# Altium integrated library con-amp.IntLib: 238 symbols (part 3 of 3)
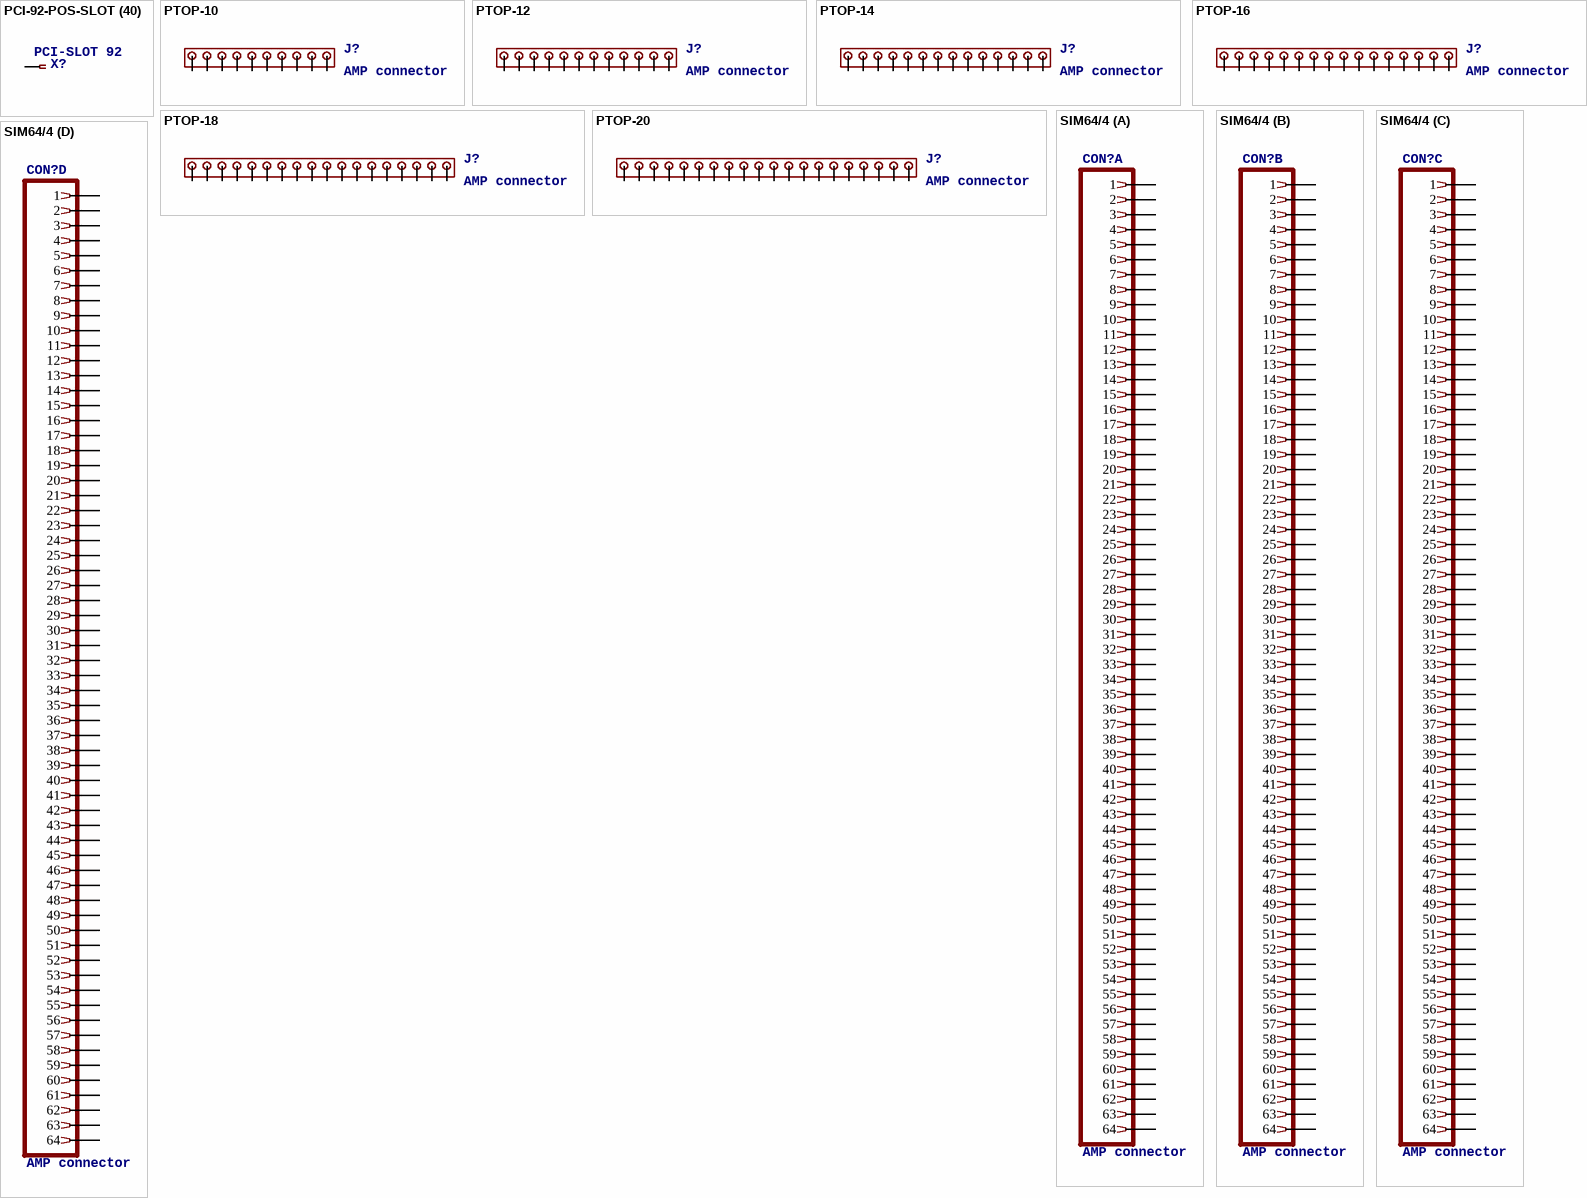
[diagram p36: symbols PCI-92-POS-SLOT to SIM64/4]

## SIM64/4
designator CON?, comment AMP connector
footprint 63825804
part A pins: 1, 2, 3, 4, 5, 6, 7, 8, 9, 10, 11, 12, 13, 14, 15, 16, 17, 18, 19, 20, 21, 22, 23, 24, 25, 26, 27, 28, 29, 30, 31, 32, 33, 34, 35, 36, 37, 38, 39, 40, 41, 42, 43, 44, 45, 46, 47, 48, 49, 50, 51, 52, 53, 54, 55, 56, 57, 58, 59, 60, 61, 62, 63, 64
part B pins: 65 1, 66 2, 67 3, 68 4, 69 5, 70 6, 71 7, 72 8, 73 9, 74 10, 75 11, 76 12, 77 13, 78 14, 79 15, 80 16, 81 17, 82 18, 83 19, 84 20, 85 21, 86 22, 87 23, 88 24, 89 25, 90 26, 91 27, 92 28, 93 29, 94 30, 95 31, 96 32, 97 33, 98 34, 99 35, 100 36, 101 37, 102 38, 103 39, 104 40, 105 41, 106 42, 107 43, 108 44, 109 45, 110 46, 111 47, 112 48, 113 49, 114 50, 115 51, 116 52, 117 53, 118 54, 119 55, 120 56, 121 57, 122 58, 123 59, 124 60, 125 61, 126 62, 127 63, 128 64
part C pins: 129 1, 130 2, 131 3, 132 4, 133 5, 134 6, 135 7, 136 8, 137 9, 138 10, 139 11, 140 12, 141 13, 142 14, 143 15, 144 16, 145 17, 146 18, 147 19, 148 20, 149 21, 150 22, 151 23, 152 24, 153 25, 154 26, 155 27, 156 28, 157 29, 158 30, 159 31, 160 32, 161 33, 162 34, 163 35, 164 36, 165 37, 166 38, 167 39, 168 40, 169 41, 170 42, 171 43, 172 44, 173 45, 174 46, 175 47, 176 48, 177 49, 178 50, 179 51, 180 52, 181 53, 182 54, 183 55, 184 56, 185 57, 186 58, 187 59, 188 60, 189 61, 190 62, 191 63, 192 64
part D pins: 193 1, 194 2, 195 3, 196 4, 197 5, 198 6, 199 7, 200 8, 201 9, 202 10, 203 11, 204 12, 205 13, 206 14, 207 15, 208 16, 209 17, 210 18, 211 19, 212 20, 213 21, 214 22, 215 23, 216 24, 217 25, 218 26, 219 27, 220 28, 221 29, 222 30, 223 31, 224 32, 225 33, 226 34, 227 35, 228 36, 229 37, 230 38, 231 39, 232 40, 233 41, 234 42, 235 43, 236 44, 237 45, 238 46, 239 47, 240 48, 241 49, 242 50, 243 51, 244 52, 245 53, 246 54, 247 55, 248 56, 249 57, 250 58, 251 59, 252 60, 253 61, 254 62, 255 63, 256 64

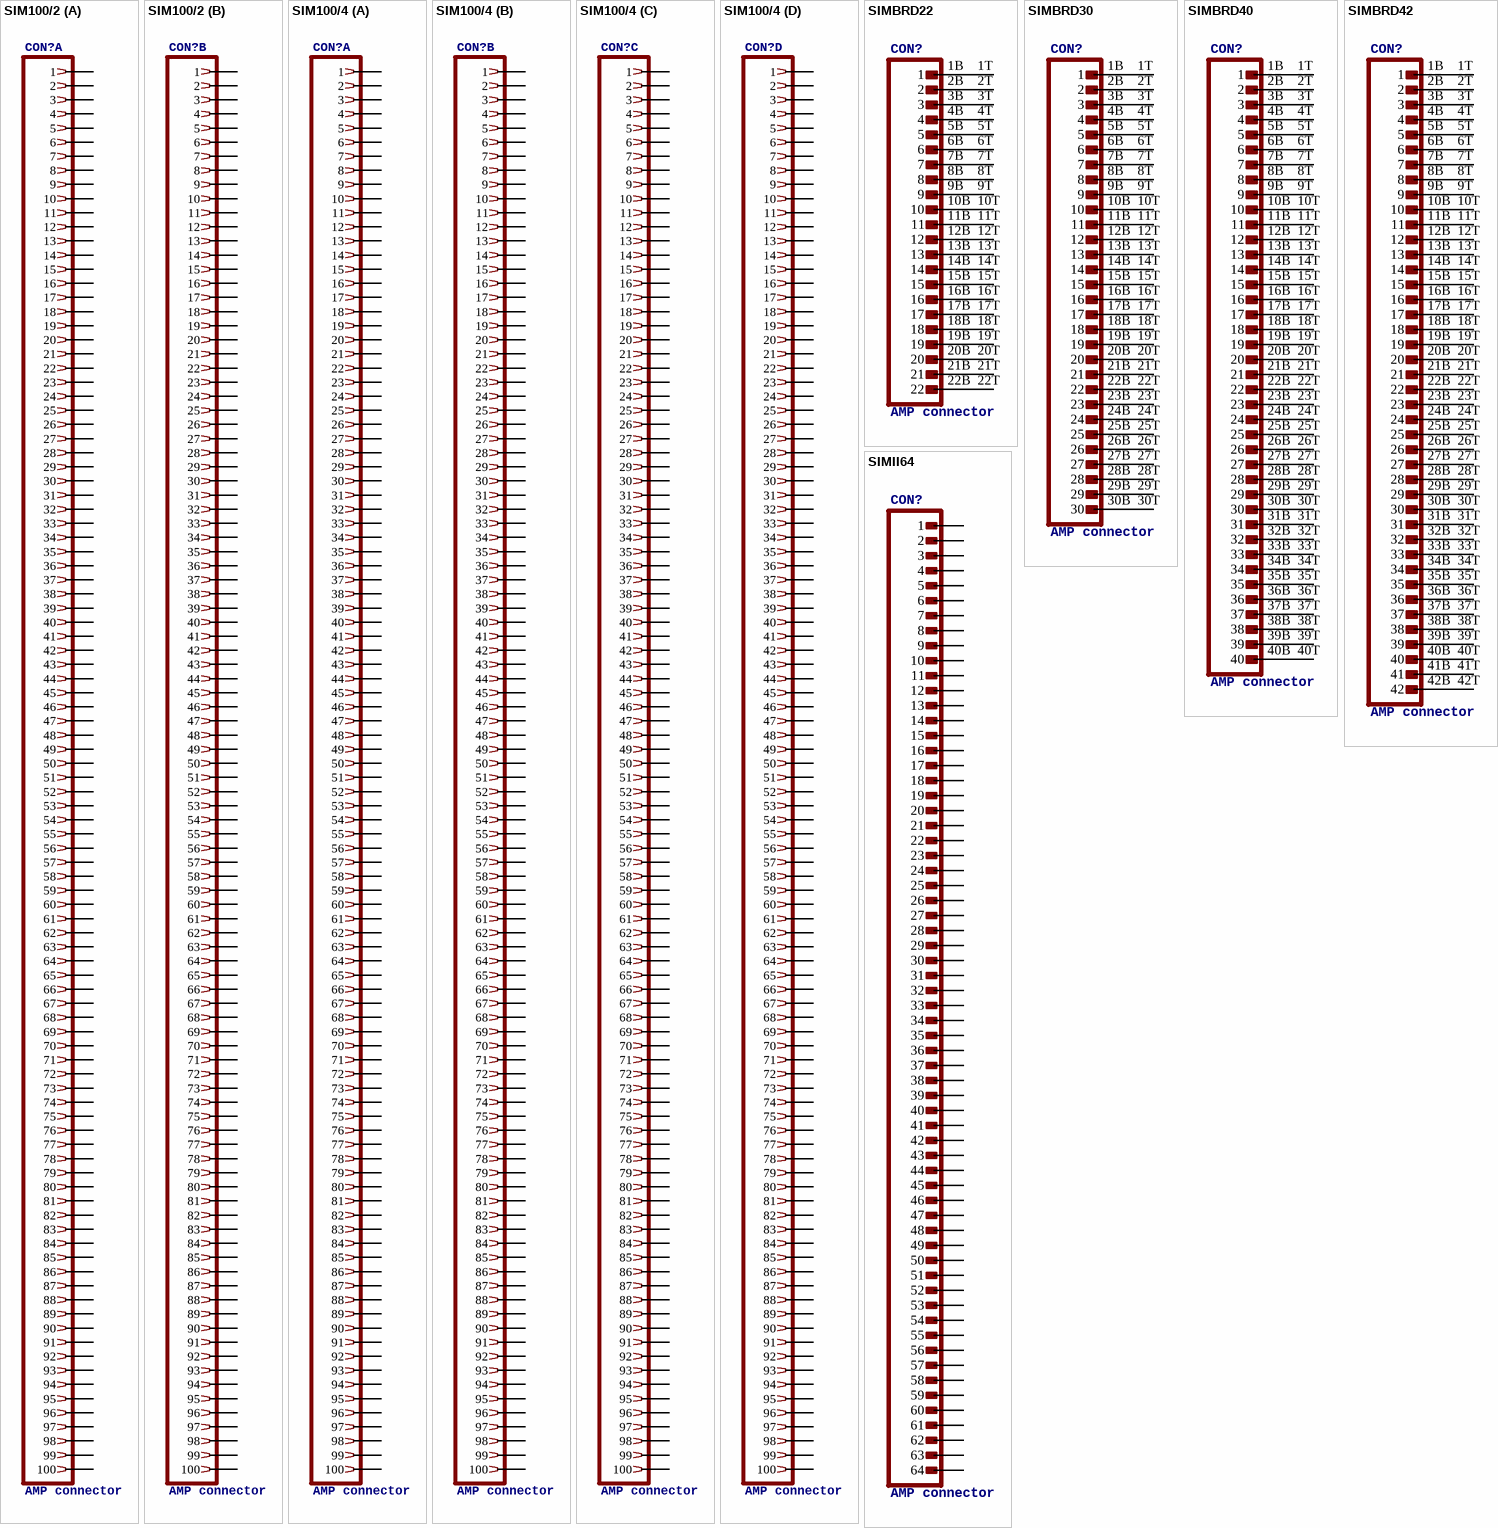
[diagram p30: symbols SIM100/2 to SIMII64]

## SIM100/2
designator CON?, comment AMP connector
footprint 382784-1
part A pins: 1, 2, 3, 4, 5, 6, 7, 8, 9, 10, 11, 12, 13, 14, 15, 16, 17, 18, 19, 20, 21, 22, 23, 24, 25, 26, 27, 28, 29, 30, 31, 32, 33, 34, 35, 36, 37, 38, 39, 40, 41, 42, 43, 44, 45, 46, 47, 48, 49, 50, 51, 52, 53, 54, 55, 56, 57, 58, 59, 60, 61, 62, 63, 64, 65, 66, 67, 68, 69, 70, 71, 72, 73, 74, 75, 76, 77, 78, 79, 80, 81, 82, 83, 84, 85, 86, 87, 88, 89, 90, 91, 92, 93, 94, 95, 96, 97, 98, 99, 100
part B pins: 101 1, 102 2, 103 3, 104 4, 105 5, 106 6, 107 7, 108 8, 109 9, 110 10, 111 11, 112 12, 113 13, 114 14, 115 15, 116 16, 117 17, 118 18, 119 19, 120 20, 121 21, 122 22, 123 23, 124 24, 125 25, 126 26, 127 27, 128 28, 129 29, 130 30, 131 31, 132 32, 133 33, 134 34, 135 35, 136 36, 137 37, 138 38, 139 39, 140 40, 141 41, 142 42, 143 43, 144 44, 145 45, 146 46, 147 47, 148 48, 149 49, 150 50, 151 51, 152 52, 153 53, 154 54, 155 55, 156 56, 157 57, 158 58, 159 59, 160 60, 161 61, 162 62, 163 63, 164 64, 165 65, 166 66, 167 67, 168 68, 169 69, 170 70, 171 71, 172 72, 173 73, 174 74, 175 75, 176 76, 177 77, 178 78, 179 79, 180 80, 181 81, 182 82, 183 83, 184 84, 185 85, 186 86, 187 87, 188 88, 189 89, 190 90, 191 91, 192 92, 193 93, 194 94, 195 95, 196 96, 197 97, 198 98, 199 99, 200 100

## SIM100/4
designator CON?, comment AMP connector
footprint 382813-1
part A pins: 1, 2, 3, 4, 5, 6, 7, 8, 9, 10, 11, 12, 13, 14, 15, 16, 17, 18, 19, 20, 21, 22, 23, 24, 25, 26, 27, 28, 29, 30, 31, 32, 33, 34, 35, 36, 37, 38, 39, 40, 41, 42, 43, 44, 45, 46, 47, 48, 49, 50, 51, 52, 53, 54, 55, 56, 57, 58, 59, 60, 61, 62, 63, 64, 65, 66, 67, 68, 69, 70, 71, 72, 73, 74, 75, 76, 77, 78, 79, 80, 81, 82, 83, 84, 85, 86, 87, 88, 89, 90, 91, 92, 93, 94, 95, 96, 97, 98, 99, 100
part B pins: 101 1, 102 2, 103 3, 104 4, 105 5, 106 6, 107 7, 108 8, 109 9, 110 10, 111 11, 112 12, 113 13, 114 14, 115 15, 116 16, 117 17, 118 18, 119 19, 120 20, 121 21, 122 22, 123 23, 124 24, 125 25, 126 26, 127 27, 128 28, 129 29, 130 30, 131 31, 132 32, 133 33, 134 34, 135 35, 136 36, 137 37, 138 38, 139 39, 140 40, 141 41, 142 42, 143 43, 144 44, 145 45, 146 46, 147 47, 148 48, 149 49, 150 50, 151 51, 152 52, 153 53, 154 54, 155 55, 156 56, 157 57, 158 58, 159 59, 160 60, 161 61, 162 62, 163 63, 164 64, 165 65, 166 66, 167 67, 168 68, 169 69, 170 70, 171 71, 172 72, 173 73, 174 74, 175 75, 176 76, 177 77, 178 78, 179 79, 180 80, 181 81, 182 82, 183 83, 184 84, 185 85, 186 86, 187 87, 188 88, 189 89, 190 90, 191 91, 192 92, 193 93, 194 94, 195 95, 196 96, 197 97, 198 98, 199 99, 200 100
part C pins: 201 1, 202 2, 203 3, 204 4, 205 5, 206 6, 207 7, 208 8, 209 9, 210 10, 211 11, 212 12, 213 13, 214 14, 215 15, 216 16, 217 17, 218 18, 219 19, 220 20, 221 21, 222 22, 223 23, 224 24, 225 25, 226 26, 227 27, 228 28, 229 29, 230 30, 231 31, 232 32, 233 33, 234 34, 235 35, 236 36, 237 37, 238 38, 239 39, 240 40, 241 41, 242 42, 243 43, 244 44, 245 45, 246 46, 247 47, 248 48, 249 49, 250 50, 251 51, 252 52, 253 53, 254 54, 255 55, 256 56, 257 57, 258 58, 259 59, 260 60, 261 61, 262 62, 263 63, 264 64, 265 65, 266 66, 267 67, 268 68, 269 69, 270 70, 271 71, 272 72, 273 73, 274 74, 275 75, 276 76, 277 77, 278 78, 279 79, 280 80, 281 81, 282 82, 283 83, 284 84, 285 85, 286 86, 287 87, 288 88, 289 89, 290 90, 291 91, 292 92, 293 93, 294 94, 295 95, 296 96, 297 97, 298 98, 299 99, 300 100
part D pins: 301 1, 302 2, 303 3, 304 4, 305 5, 306 6, 307 7, 308 8, 309 9, 310 10, 311 11, 312 12, 313 13, 314 14, 315 15, 316 16, 317 17, 318 18, 319 19, 320 20, 321 21, 322 22, 323 23, 324 24, 325 25, 326 26, 327 27, 328 28, 329 29, 330 30, 331 31, 332 32, 333 33, 334 34, 335 35, 336 36, 337 37, 338 38, 339 39, 340 40, 341 41, 342 42, 343 43, 344 44, 345 45, 346 46, 347 47, 348 48, 349 49, 350 50, 351 51, 352 52, 353 53, 354 54, 355 55, 356 56, 357 57, 358 58, 359 59, 360 60, 361 61, 362 62, 363 63, 364 64, 365 65, 366 66, 367 67, 368 68, 369 69, 370 70, 371 71, 372 72, 373 73, 374 74, 375 75, 376 76, 377 77, 378 78, 379 79, 380 80, 381 81, 382 82, 383 83, 384 84, 385 85, 386 86, 387 87, 388 88, 389 89, 390 90, 391 91, 392 92, 393 93, 394 94, 395 95, 396 96, 397 97, 398 98, 399 99, 400 100

## SIMBRD22
designator CON?, comment AMP connector
footprint SIMBRD22
pins: 1B 1, 1T A1, 2B 2, 2T A2, 3B 3, 3T A3, 4B 4, 4T A4, 5B 5, 5T A5, 6B 6, 6T A6, 7B 7, 7T A7, 8B 8, 8T A8, 9B 9, 9T A9, 10B 10, 10T A10, 11B 11, 11T A11, 12B 12, 12T A12, 13B 13, 13T A13, 14B 14, 14T A14, 15B 15, 15T A15, 16B 16, 16T A16, 17B 17, 17T A17, 18B 18, 18T A18, 19B 19, 19T A19, 20B 20, 20T A20, 21B 21, 21T A21, 22B 22, 22T A22

## SIMBRD30
designator CON?, comment AMP connector
footprint SIMBRD30
pins: 1B 1, 1T A1, 2B 2, 2T A2, 3B 3, 3T A3, 4B 4, 4T A4, 5B 5, 5T A5, 6B 6, 6T A6, 7B 7, 7T A7, 8B 8, 8T A8, 9B 9, 9T A9, 10B 10, 10T A10, 11B 11, 11T A11, 12B 12, 12T A12, 13B 13, 13T A13, 14B 14, 14T A14, 15B 15, 15T A15, 16B 16, 16T A16, 17B 17, 17T A17, 18B 18, 18T A18, 19B 19, 19T A19, 20B 20, 20T A20, 21B 21, 21T A21, 22B 22, 22T A22, 23B 23, 23T A23, 24B 24, 24T A24, 25B 25, 25T A25, 26B 26, 26T A26, 27B 27, 27T A27, 28B 28, 28T A28, 29B 29, 29T A29, 30B 30, 30T A30

## SIMBRD40
designator CON?, comment AMP connector
footprint SIMBRD40
pins: 1B 1, 1T A1, 2B 2, 2T A2, 3B 3, 3T A3, 4B 4, 4T A4, 5B 5, 5T A5, 6B 6, 6T A6, 7B 7, 7T A7, 8B 8, 8T A8, 9B 9, 9T A9, 10B 10, 10T A10, 11B 11, 11T A11, 12B 12, 12T A12, 13B 13, 13T A13, 14B 14, 14T A14, 15B 15, 15T A15, 16B 16, 16T A16, 17B 17, 17T A17, 18B 18, 18T A18, 19B 19, 19T A19, 20B 20, 20T A20, 21B 21, 21T A21, 22B 22, 22T A22, 23B 23, 23T A23, 24B 24, 24T A24, 25B 25, 25T A25, 26B 26, 26T A26, 27B 27, 27T A27, 28B 28, 28T A28, 29B 29, 29T A29, 30B 30, 30T A30, 31B 31, 31T A31, 32B 32, 32T A32, 33B 33, 33T A33, 34B 34, 34T A34, 35B 35, 35T A35, 36B 36, 36T A36, 37B 37, 37T A37, 38B 38, 38T A38, 39B 39, 39T A39, 40B 40, 40T A40

## SIMBRD42
designator CON?, comment AMP connector
footprint SIMBRD42
pins: 1B 1, 1T A1, 2B 2, 2T A2, 3B 3, 3T A3, 4B 4, 4T A4, 5B 5, 5T A5, 6B 6, 6T A6, 7B 7, 7T A7, 8B 8, 8T A8, 9B 9, 9T A9, 10B 10, 10T A10, 11B 11, 11T A11, 12B 12, 12T A12, 13B 13, 13T A13, 14B 14, 14T A14, 15B 15, 15T A15, 16B 16, 16T A16, 17B 17, 17T A17, 18B 18, 18T A18, 19B 19, 19T A19, 20B 20, 20T A20, 21B 21, 21T A21, 22B 22, 22T A22, 23B 23, 23T A23, 24B 24, 24T A24, 25B 25, 25T A25, 26B 26, 26T A26, 27B 27, 27T A27, 28B 28, 28T A28, 29B 29, 29T A29, 30B 30, 30T A30, 31B 31, 31T A31, 32B 32, 32T A32, 33B 33, 33T A33, 34B 34, 34T A34, 35B 35, 35T A35, 36B 36, 36T A36, 37B 37, 37T A37, 38B 38, 38T A38, 39B 39, 39T A39, 40B 40, 40T A40, 41B 41, 41T A41, 42B 42, 42T A42

## SIMII64
designator CON?, comment AMP connector
footprint SIMM64R
pins: 1, 2, 3, 4, 5, 6, 7, 8, 9, 10, 11, 12, 13, 14, 15, 16, 17, 18, 19, 20, 21, 22, 23, 24, 25, 26, 27, 28, 29, 30, 31, 32, 33, 34, 35, 36, 37, 38, 39, 40, 41, 42, 43, 44, 45, 46, 47, 48, 49, 50, 51, 52, 53, 54, 55, 56, 57, 58, 59, 60, 61, 62, 63, 64, 65, 66, 67, 68, 69, 70, 71, 72, 73, 74, 75, 76, 77, 78, 79, 80, 81, 82, 83, 84, 85, 86, 87, 88, 89, 90, 91, 92, 93, 94, 95, 96, 97, 98, 99, 100, 101, 102, 103, 104, 105, 106, 107, 108, 109, 110, 111, 112, 113, 114, 115, 116, 117, 118, 119, 120, 121, 122, 123, 124, 125, 126, 127, 128

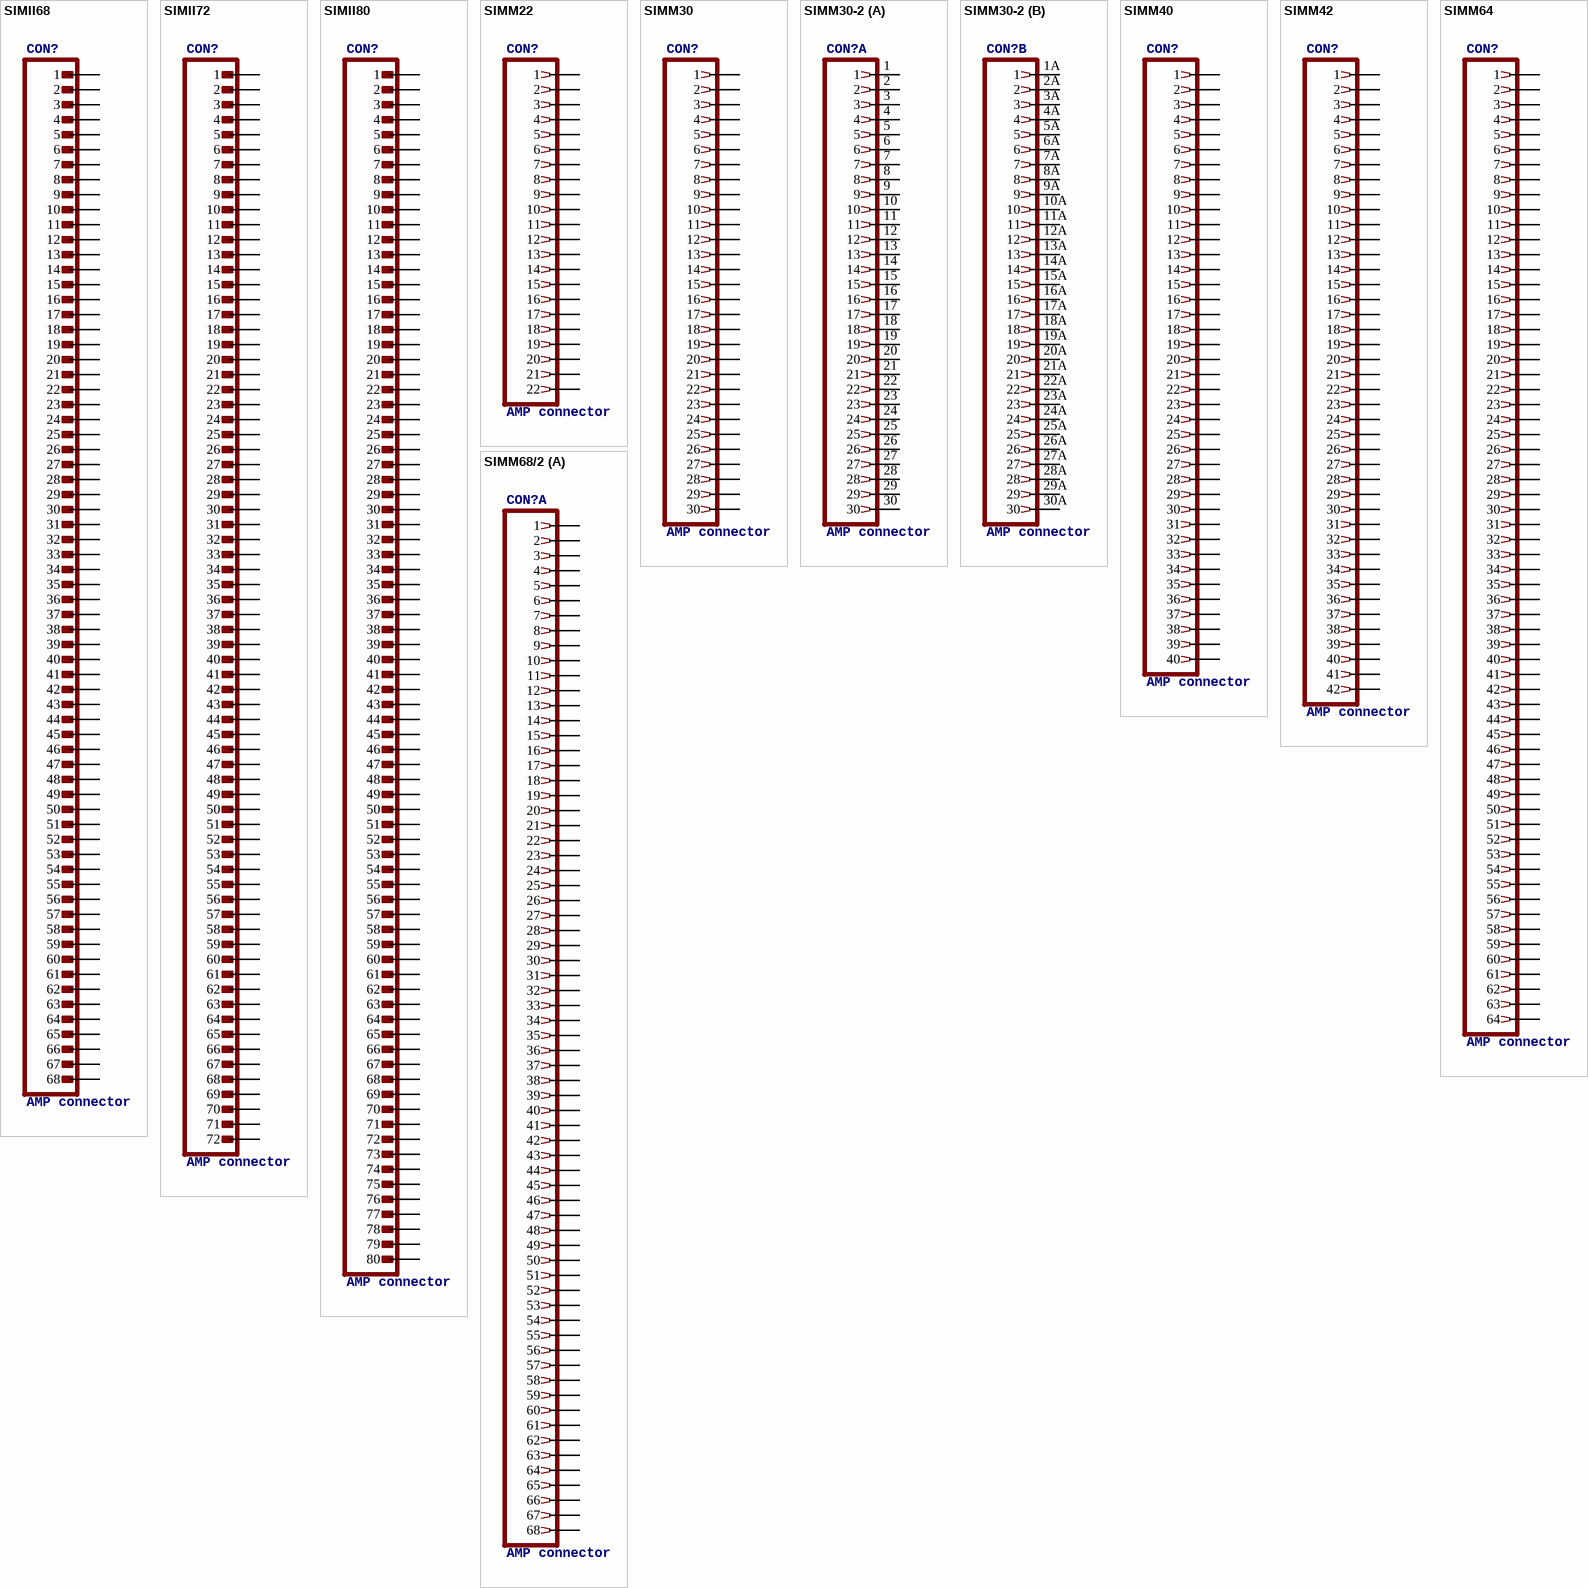
[diagram p31: symbols SIMII68 to SIMM68/2]

## SIMII68
designator CON?, comment AMP connector
footprint SIMM68R
pins: 1, 2, 3, 4, 5, 6, 7, 8, 9, 10, 11, 12, 13, 14, 15, 16, 17, 18, 19, 20, 21, 22, 23, 24, 25, 26, 27, 28, 29, 30, 31, 32, 33, 34, 35, 36, 37, 38, 39, 40, 41, 42, 43, 44, 45, 46, 47, 48, 49, 50, 51, 52, 53, 54, 55, 56, 57, 58, 59, 60, 61, 62, 63, 64, 65, 66, 67, 68, 69, 70, 71, 72, 73, 74, 75, 76, 77, 78, 79, 80, 81, 82, 83, 84, 85, 86, 87, 88, 89, 90, 91, 92, 93, 94, 95, 96, 97, 98, 99, 100, 101, 102, 103, 104, 105, 106, 107, 108, 109, 110, 111, 112, 113, 114, 115, 116, 117, 118, 119, 120, 121, 122, 123, 124, 125, 126, 127, 128, 129, 130, 131, 132, 133, 134, 135, 136

## SIMII72
designator CON?, comment AMP connector
footprint SIMM72R
pins: 1, 2, 3, 4, 5, 6, 7, 8, 9, 10, 11, 12, 13, 14, 15, 16, 17, 18, 19, 20, 21, 22, 23, 24, 25, 26, 27, 28, 29, 30, 31, 32, 33, 34, 35, 36, 37, 38, 39, 40, 41, 42, 43, 44, 45, 46, 47, 48, 49, 50, 51, 52, 53, 54, 55, 56, 57, 58, 59, 60, 61, 62, 63, 64, 65, 66, 67, 68, 69, 70, 71, 72, 73, 74, 75, 76, 77, 78, 79, 80, 81, 82, 83, 84, 85, 86, 87, 88, 89, 90, 91, 92, 93, 94, 95, 96, 97, 98, 99, 100, 101, 102, 103, 104, 105, 106, 107, 108, 109, 110, 111, 112, 113, 114, 115, 116, 117, 118, 119, 120, 121, 122, 123, 124, 125, 126, 127, 128, 129, 130, 131, 132, 133, 134, 135, 136, 137, 138, 139, 140, 141, 142, 143, 144

## SIMII80
designator CON?, comment AMP connector
footprint SIMM80R
pins: 1, 2, 3, 4, 5, 6, 7, 8, 9, 10, 11, 12, 13, 14, 15, 16, 17, 18, 19, 20, 21, 22, 23, 24, 25, 26, 27, 28, 29, 30, 31, 32, 33, 34, 35, 36, 37, 38, 39, 40, 41, 42, 43, 44, 45, 46, 47, 48, 49, 50, 51, 52, 53, 54, 55, 56, 57, 58, 59, 60, 61, 62, 63, 64, 65, 66, 67, 68, 69, 70, 71, 72, 73, 74, 75, 76, 77, 78, 79, 80, 81, 82, 83, 84, 85, 86, 87, 88, 89, 90, 91, 92, 93, 94, 95, 96, 97, 98, 99, 100, 101, 102, 103, 104, 105, 106, 107, 108, 109, 110, 111, 112, 113, 114, 115, 116, 117, 118, 119, 120, 121, 122, 123, 124, 125, 126, 127, 128, 129, 130, 131, 132, 133, 134, 135, 136, 137, 138, 139, 140, 141, 142, 143, 144, 145, 146, 147, 148, 149, 150, 151, 152, 153, 154, 155, 156, 157, 158, 159, 160

## SIMM22
designator CON?, comment AMP connector
footprint SIMM22
pins: 1, 2, 3, 4, 5, 6, 7, 8, 9, 10, 11, 12, 13, 14, 15, 16, 17, 18, 19, 20, 21, 22

## SIMM30
designator CON?, comment AMP connector
footprint SIMM30
pins: 1, 2, 3, 4, 5, 6, 7, 8, 9, 10, 11, 12, 13, 14, 15, 16, 17, 18, 19, 20, 21, 22, 23, 24, 25, 26, 27, 28, 29, 30

## SIMM30-2
designator CON?, comment AMP connector
footprint SIMM30-2
part A pins: 1, 2, 3, 4, 5, 6, 7, 8, 9, 10, 11, 12, 13, 14, 15, 16, 17, 18, 19, 20, 21, 22, 23, 24, 25, 26, 27, 28, 29, 30
part B pins: 1A 1, 2A 2, 3A 3, 4A 4, 5A 5, 6A 6, 7A 7, 8A 8, 9A 9, 10A 10, 11A 11, 12A 12, 13A 13, 14A 14, 15A 15, 16A 16, 17A 17, 18A 18, 19A 19, 20A 20, 21A 21, 22A 22, 23A 23, 24A 24, 25A 25, 26A 26, 27A 27, 28A 28, 29A 29, 30A 30

## SIMM40
designator CON?, comment AMP connector
footprint SIMM40
pins: 1, 2, 3, 4, 5, 6, 7, 8, 9, 10, 11, 12, 13, 14, 15, 16, 17, 18, 19, 20, 21, 22, 23, 24, 25, 26, 27, 28, 29, 30, 31, 32, 33, 34, 35, 36, 37, 38, 39, 40

## SIMM42
designator CON?, comment AMP connector
footprint SIMM42
pins: 1, 2, 3, 4, 5, 6, 7, 8, 9, 10, 11, 12, 13, 14, 15, 16, 17, 18, 19, 20, 21, 22, 23, 24, 25, 26, 27, 28, 29, 30, 31, 32, 33, 34, 35, 36, 37, 38, 39, 40, 41, 42

## SIMM64
designator CON?, comment AMP connector
footprint 822032-2
pins: 1, 2, 3, 4, 5, 6, 7, 8, 9, 10, 11, 12, 13, 14, 15, 16, 17, 18, 19, 20, 21, 22, 23, 24, 25, 26, 27, 28, 29, 30, 31, 32, 33, 34, 35, 36, 37, 38, 39, 40, 41, 42, 43, 44, 45, 46, 47, 48, 49, 50, 51, 52, 53, 54, 55, 56, 57, 58, 59, 60, 61, 62, 63, 64

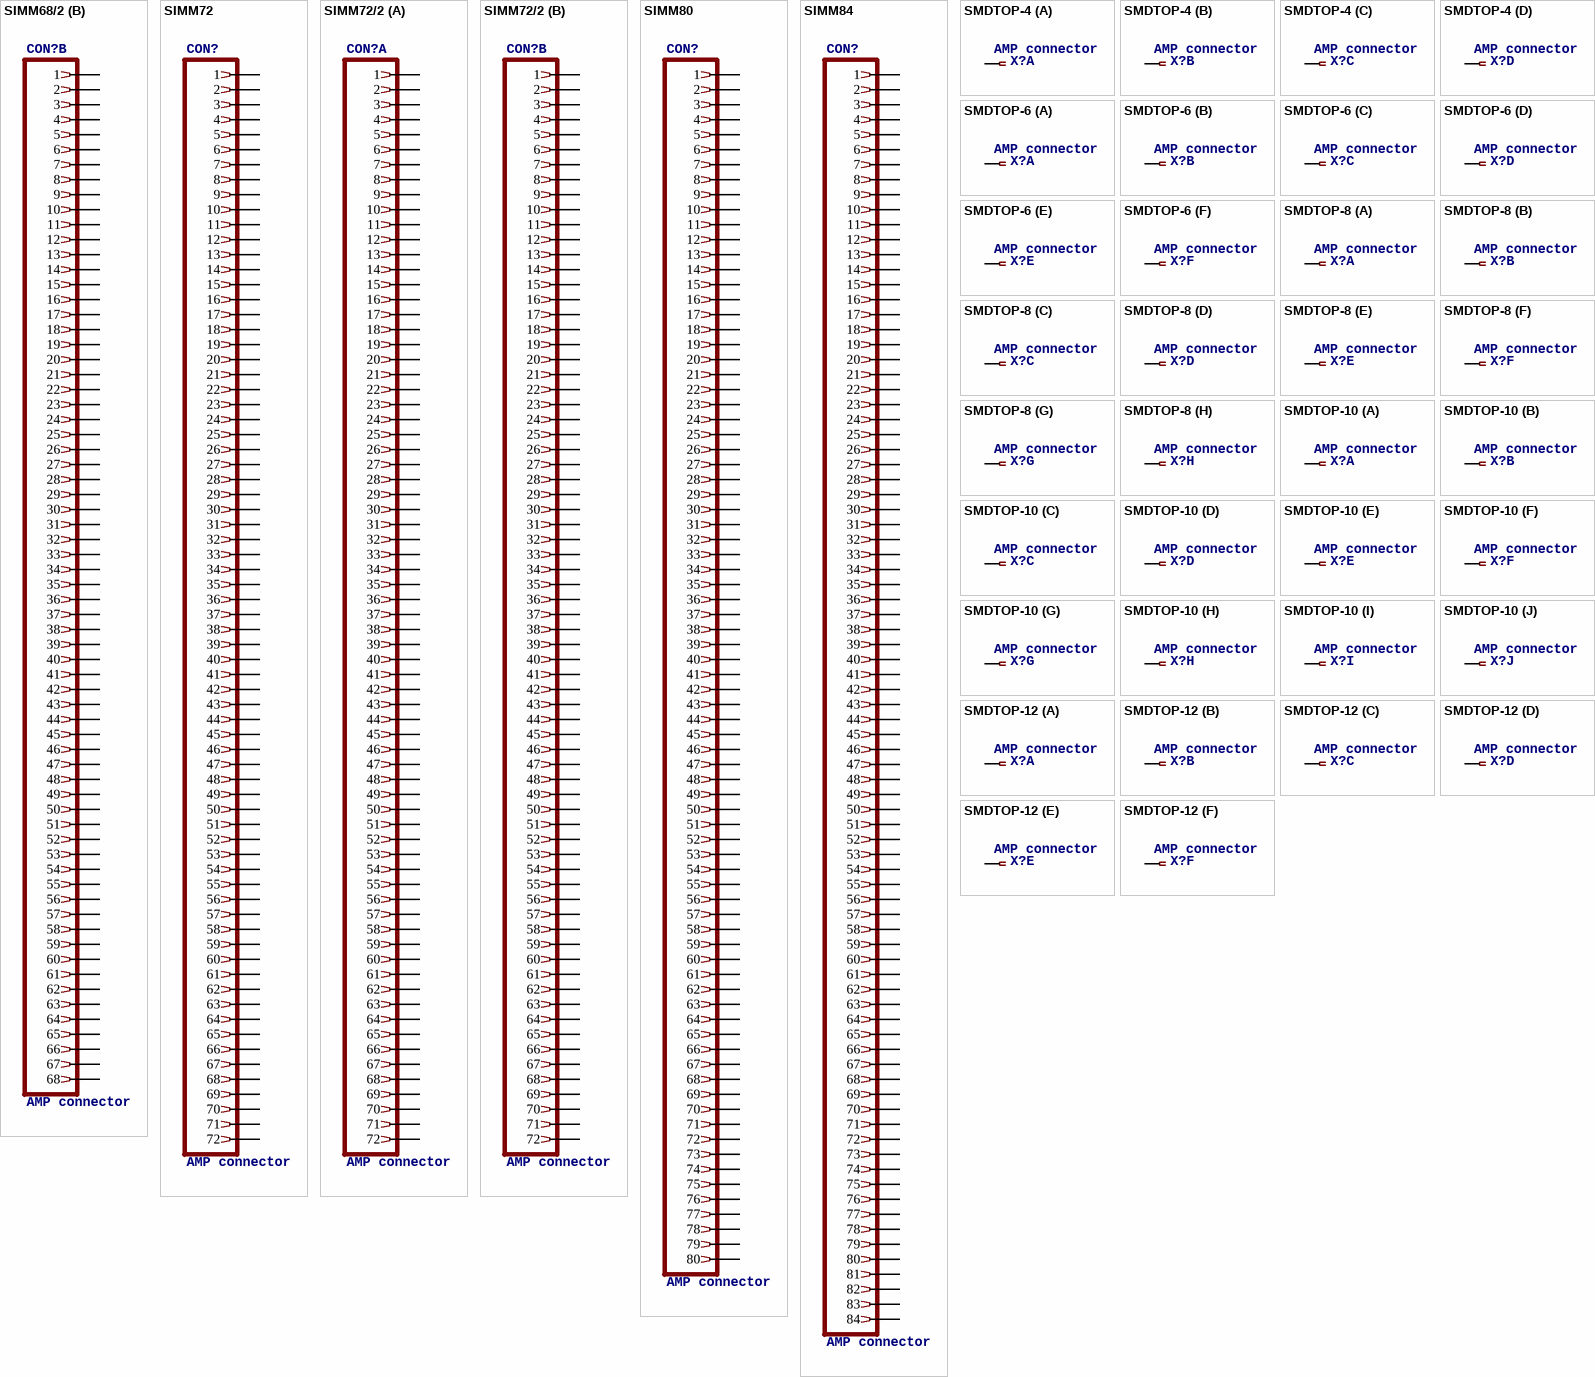
[diagram p32: symbols SIMM68/2 to SMDTOP-12]

## SIMM68/2
designator CON?, comment AMP connector
footprint 822023-3
part A pins: 1-1 1, 1-2 2, 1-3 3, 1-4 4, 1-5 5, 1-6 6, 1-7 7, 1-8 8, 1-9 9, 1-10 10, 1-11 11, 1-12 12, 1-13 13, 1-14 14, 1-15 15, 1-16 16, 1-17 17, 1-18 18, 1-19 19, 1-20 20, 1-21 21, 1-22 22, 1-23 23, 1-24 24, 1-25 25, 1-26 26, 1-27 27, 1-28 28, 1-29 29, 1-30 30, 1-31 31, 1-32 32, 1-33 33, 1-34 34, 1-35 35, 1-36 36, 1-37 37, 1-38 38, 1-39 39, 1-40 40, 1-41 41, 1-42 42, 1-43 43, 1-44 44, 1-45 45, 1-46 46, 1-47 47, 1-48 48, 1-49 49, 1-50 50, 1-51 51, 1-52 52, 1-53 53, 1-54 54, 1-55 55, 1-56 56, 1-57 57, 1-58 58, 1-59 59, 1-60 60, 1-61 61, 1-62 62, 1-63 63, 1-64 64, 1-65 65, 1-66 66, 1-67 67, 1-68 68
part B pins: 2-1 1, 2-2 2, 2-3 3, 2-4 4, 2-5 5, 2-6 6, 2-7 7, 2-8 8, 2-9 9, 2-10 10, 2-11 11, 2-12 12, 2-13 13, 2-14 14, 2-15 15, 2-16 16, 2-17 17, 2-18 18, 2-19 19, 2-20 20, 2-21 21, 2-22 22, 2-23 23, 2-24 24, 2-25 25, 2-26 26, 2-27 27, 2-28 28, 2-29 29, 2-30 30, 2-31 31, 2-32 32, 2-33 33, 2-34 34, 2-35 35, 2-36 36, 2-37 37, 2-38 38, 2-39 39, 2-40 40, 2-41 41, 2-42 42, 2-43 43, 2-44 44, 2-45 45, 2-46 46, 2-47 47, 2-48 48, 2-49 49, 2-50 50, 2-51 51, 2-52 52, 2-53 53, 2-54 54, 2-55 55, 2-56 56, 2-57 57, 2-58 58, 2-59 59, 2-60 60, 2-61 61, 2-62 62, 2-63 63, 2-64 64, 2-65 65, 2-66 66, 2-67 67, 2-68 68

## SIMM72
designator CON?, comment AMP connector
footprint 73826962
pins: 1, 2, 3, 4, 5, 6, 7, 8, 9, 10, 11, 12, 13, 14, 15, 16, 17, 18, 19, 20, 21, 22, 23, 24, 25, 26, 27, 28, 29, 30, 31, 32, 33, 34, 35, 36, 37, 38, 39, 40, 41, 42, 43, 44, 45, 46, 47, 48, 49, 50, 51, 52, 53, 54, 55, 56, 57, 58, 59, 60, 61, 62, 63, 64, 65, 66, 67, 68, 69, 70, 71, 72

## SIMM72/2
designator CON?, comment AMP connector
footprint 822023-4
part A pins: 1-1 1, 1-2 2, 1-3 3, 1-4 4, 1-5 5, 1-6 6, 1-7 7, 1-8 8, 1-9 9, 1-10 10, 1-11 11, 1-12 12, 1-13 13, 1-14 14, 1-15 15, 1-16 16, 1-17 17, 1-18 18, 1-19 19, 1-20 20, 1-21 21, 1-22 22, 1-23 23, 1-24 24, 1-25 25, 1-26 26, 1-27 27, 1-28 28, 1-29 29, 1-30 30, 1-31 31, 1-32 32, 1-33 33, 1-34 34, 1-35 35, 1-36 36, 1-37 37, 1-38 38, 1-39 39, 1-40 40, 1-41 41, 1-42 42, 1-43 43, 1-44 44, 1-45 45, 1-46 46, 1-47 47, 1-48 48, 1-49 49, 1-50 50, 1-51 51, 1-52 52, 1-53 53, 1-54 54, 1-55 55, 1-56 56, 1-57 57, 1-58 58, 1-59 59, 1-60 60, 1-61 61, 1-62 62, 1-63 63, 1-64 64, 1-65 65, 1-66 66, 1-67 67, 1-68 68, 1-69 69, 1-70 70, 1-71 71, 1-72 72
part B pins: 2-1 1, 2-2 2, 2-3 3, 2-4 4, 2-5 5, 2-6 6, 2-7 7, 2-8 8, 2-9 9, 2-10 10, 2-11 11, 2-12 12, 2-13 13, 2-14 14, 2-15 15, 2-16 16, 2-17 17, 2-18 18, 2-19 19, 2-20 20, 2-21 21, 2-22 22, 2-23 23, 2-24 24, 2-25 25, 2-26 26, 2-27 27, 2-28 28, 2-29 29, 2-30 30, 2-31 31, 2-32 32, 2-33 33, 2-34 34, 2-35 35, 2-36 36, 2-37 37, 2-38 38, 2-39 39, 2-40 40, 2-41 41, 2-42 42, 2-43 43, 2-44 44, 2-45 45, 2-46 46, 2-47 47, 2-48 48, 2-49 49, 2-50 50, 2-51 51, 2-52 52, 2-53 53, 2-54 54, 2-55 55, 2-56 56, 2-57 57, 2-58 58, 2-59 59, 2-60 60, 2-61 61, 2-62 62, 2-63 63, 2-64 64, 2-65 65, 2-66 66, 2-67 67, 2-68 68, 2-69 69, 2-70 70, 2-71 71, 2-72 72

## SIMM80
designator CON?, comment AMP connector
footprint 83826980
pins: 1, 2, 3, 4, 5, 6, 7, 8, 9, 10, 11, 12, 13, 14, 15, 16, 17, 18, 19, 20, 21, 22, 23, 24, 25, 26, 27, 28, 29, 30, 31, 32, 33, 34, 35, 36, 37, 38, 39, 40, 41, 42, 43, 44, 45, 46, 47, 48, 49, 50, 51, 52, 53, 54, 55, 56, 57, 58, 59, 60, 61, 62, 63, 64, 65, 66, 67, 68, 69, 70, 71, 72, 73, 74, 75, 76, 77, 78, 79, 80

## SIMM84
designator CON?, comment AMP connector
footprint 83824814
pins: 1, 2, 3, 4, 5, 6, 7, 8, 9, 10, 11, 12, 13, 14, 15, 16, 17, 18, 19, 20, 21, 22, 23, 24, 25, 26, 27, 28, 29, 30, 31, 32, 33, 34, 35, 36, 37, 38, 39, 40, 41, 42, 43, 44, 45, 46, 47, 48, 49, 50, 51, 52, 53, 54, 55, 56, 57, 58, 59, 60, 61, 62, 63, 64, 65, 66, 67, 68, 69, 70, 71, 72, 73, 74, 75, 76, 77, 78, 79, 80, 81, 82, 83, 84

## SMDTOP-4
designator X?, comment AMP connector
footprint SMDTOP4
part A pins: 1
part B pins: 2 1
part C pins: 3 1
part D pins: 4 1

## SMDTOP-6
designator X?, comment AMP connector
footprint SMDTOP6
part A pins: 1
part B pins: 2 1
part C pins: 3 1
part D pins: 4 1
part E pins: 5 1
part F pins: 6 1

## SMDTOP-8
designator X?, comment AMP connector
footprint SMDTOP8
part A pins: 1
part B pins: 2 1
part C pins: 3 1
part D pins: 4 1
part E pins: 5 1
part F pins: 6 1
part G pins: 7 1
part H pins: 8 1

## SMDTOP-10
designator X?, comment AMP connector
footprint SMDTOP10
part A pins: 1
part B pins: 2 1
part C pins: 3 1
part D pins: 4 1
part E pins: 5 1
part F pins: 6 1
part G pins: 7 1
part H pins: 8 1
part I pins: 9 1
part J pins: 10 1

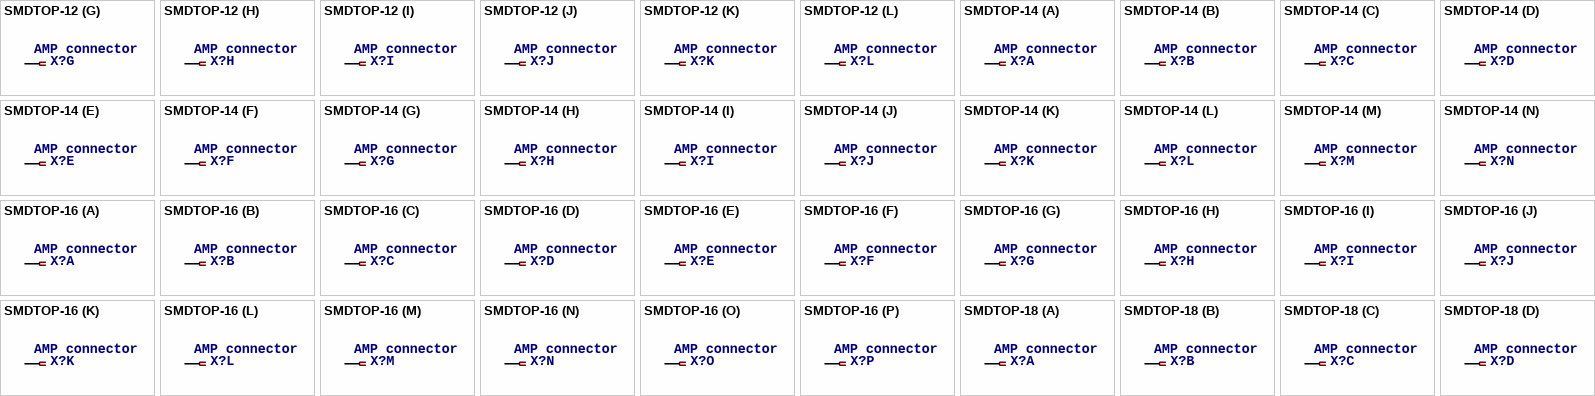
[diagram p33: symbols SMDTOP-12 to SMDTOP-18]

## SMDTOP-12
designator X?, comment AMP connector
footprint SMDTOP12
part A pins: 1
part B pins: 2 1
part C pins: 3 1
part D pins: 4 1
part E pins: 5 1
part F pins: 6 1
part G pins: 7 1
part H pins: 8 1
part I pins: 9 1
part J pins: 10 1
part K pins: 11 1
part L pins: 12 1

## SMDTOP-14
designator X?, comment AMP connector
footprint SMDTOP14
part A pins: 1
part B pins: 2 1
part C pins: 3 1
part D pins: 4 1
part E pins: 5 1
part F pins: 6 1
part G pins: 7 1
part H pins: 8 1
part I pins: 9 1
part J pins: 10 1
part K pins: 11 1
part L pins: 12 1
part M pins: 13 1
part N pins: 14 1

## SMDTOP-16
designator X?, comment AMP connector
footprint SMDTOP16
part A pins: 1
part B pins: 2 1
part C pins: 3 1
part D pins: 4 1
part E pins: 5 1
part F pins: 6 1
part G pins: 7 1
part H pins: 8 1
part I pins: 9 1
part J pins: 10 1
part K pins: 11 1
part L pins: 12 1
part M pins: 13 1
part N pins: 14 1
part O pins: 15 1
part P pins: 16 1

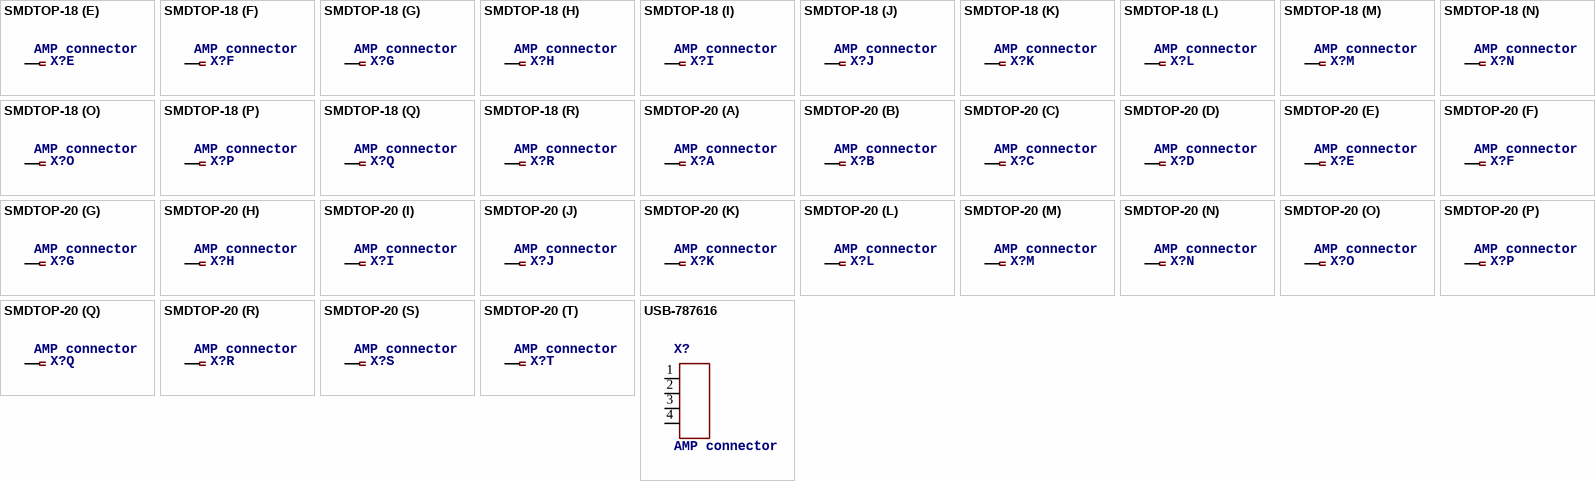
[diagram p34: symbols SMDTOP-18 to USB-787616]

## SMDTOP-18
designator X?, comment AMP connector
footprint SMDTOP18
part A pins: 1
part B pins: 2 1
part C pins: 3 1
part D pins: 4 1
part E pins: 5 1
part F pins: 6 1
part G pins: 7 1
part H pins: 8 1
part I pins: 9 1
part J pins: 10 1
part K pins: 11 1
part L pins: 12 1
part M pins: 13 1
part N pins: 14 1
part O pins: 15 1
part P pins: 16 1
part Q pins: 17 1
part R pins: 18 1

## SMDTOP-20
designator X?, comment AMP connector
footprint SMDTOP20
part A pins: 1
part B pins: 2 1
part C pins: 3 1
part D pins: 4 1
part E pins: 5 1
part F pins: 6 1
part G pins: 7 1
part H pins: 8 1
part I pins: 9 1
part J pins: 10 1
part K pins: 11 1
part L pins: 12 1
part M pins: 13 1
part N pins: 14 1
part O pins: 15 1
part P pins: 16 1
part Q pins: 17 1
part R pins: 18 1
part S pins: 19 1
part T pins: 20 1

## USB-787616
designator X?, comment AMP connector
footprint USB
pins: 1, 2, 3, 4